# Altium footprint library 2021-04-29_10-36-20.PcbLib: 3 footprints
Each footprint in its own frame and in the unit in brackets; x right, y up, seen from the top. Pads: shape width x height; smd on the part's side, far side on the other; paste and mask are expansions set on the pad; w line width, h text height; cw(c..) or ccw(c..) is an arc to the next point about the centre after c.
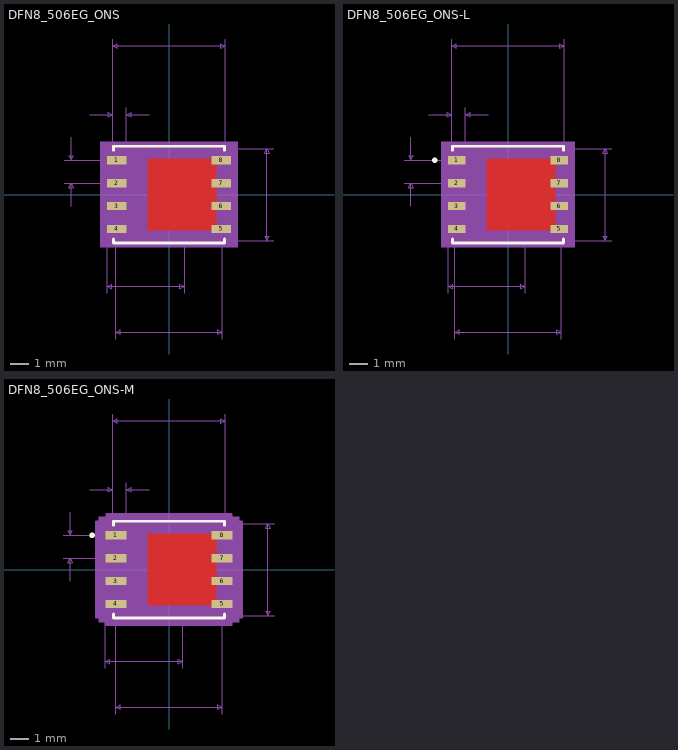
[diagram p0: the footprints below, top view; thin cyan lines are the x and y axes]

## DFN8_506EG_ONS [mil]
pads (8):
  rect 42x18 smd paste+0 mask+0: 1(-114,75) 2(-114,25) 3(-114,-25) 4(-114,-75) 5(114,-75) 6(114,-25) 7(114,25) 8(114,75)
Top Layer:
  region: 103,-78 103,78 -46,78 -46,-78
Top Overlay:
  lines w6: -121,-97.1 -121,-105.5 121,-105.5 121,-97.1 ; -121,97.1 -121,105.5 121,105.5 121,97.1
Top Paste:
  region: 103,-78 103,78 -46,78 -46,-78
Top Solder:
  region: 103,-78 103,78 -46,78 -46,-78
Mechanical 5:
  region: 150,-115.5 -150,-115.5 -150,115.5 150,115.5
Mechanical 7:
  lines w1: -229,25 -114,25 ; -229,75 -114,75 ; -214,-25 -214,25 ; -214,125 -214,75 ; -173,175 -123,175 ; -135,-215.5 -135,-78 ; -123,190 -123,75 -123,340 ; -116,-315.5 -116,-100.5 ; -93,75 -93,190 ; -43,175 -93,175 ; 34,-215.5 34,-78 ; 116,-315.5 116,-100.5 229,-100.5 ; 116,100.5 229,100.5 ; 123,75 123,340 ; -214,25 -209,15 -219,15 -214,25 ; -214,75 -209,85 -219,85 -214,75 ; -135,-200.5 -125,-205.5 -125,-195.5 -135,-200.5 ; -135,-200.5 34,-200.5 ; -123,175 -133,170 -133,180 -123,175 ; -123,325 -113,320 -113,330 -123,325 ; -123,325 123,325 ; -116,-300.5 -106,-305.5 -106,-295.5 -116,-300.5 ; -116,-300.5 116,-300.5 ; -93,175 -83,170 -83,180 -93,175 ; 34,-200.5 24,-205.5 24,-195.5 34,-200.5 ; 116,-300.5 106,-305.5 106,-295.5 116,-300.5 ; 123,325 113,320 113,330 123,325 ; 214,-100.5 219,-90.5 209,-90.5 214,-100.5 ; 214,-100.5 214,100.5 ; 214,100.5 219,90.5 209,90.5 214,100.5
  text "0.169in/4.293mm" at -144.25,-245.5 h25
  text "0.232in/5.893mm" at -93.75,-345.5 h25
  text "0.201in/5.105mm" at 234,-12.5 h25
  text "0.05in/1.27mm" at -396.5,37.5 h25
  text "0.03in/0.762mm" at -195.5,195 h25
  text "0.246in/6.248mm" at -93.75,345 h25
  text "Alt 2 Padstyle: OX90Y60D30P" at -337.5,-625.5 h50
  text "Alt 1 Padstyle: OX60Y90D30P" at -337.5,-550.5 h50
  text "Default Padstyle: RX42Y18D0T" at -350,-475.5 h50
Mechanical 13:
  lines w0: -12,100.5 ccw(c0,100.5) 12,100.5
  lines w1: -116,-100.5 -116,100.5 116,100.5 116,-100.5 -116,-100.5
Mechanical 15:
  region: -126,-102 -145,-102 -145,102 -126,102 -126,110.5 126,110.5 126,102 145,102 145,-102 126,-102 126,-110.5 -126,-110.5
  lines w6: -145,-102 -126,-102 -126,-110.5 126,-110.5 126,-102 145,-102 145,102 126,102 126,110.5 -126,110.5 -126,102 -145,102 -145,-102
3D body: height 10, standoff 0, extent 0,0 10,10

## DFN8_506EG_ONS-L [mil]
pads (8):
  rect 38x18 smd paste+0 mask+0: 1(-112,75) 2(-112,25) 3(-112,-25) 4(-112,-75) 5(112,-75) 6(112,-25) 7(112,25) 8(112,75)
Top Layer:
  region: 103,-78 103,78 -46,78 -46,-78
Top Overlay:
  circle w6: c-160,75 r3
  lines w6: -121,-97.1 -121,-105.5 121,-105.5 121,-97.1 ; -121,97.1 -121,105.5 121,105.5 121,97.1
Top Paste:
  region: 103,-78 103,78 -46,78 -46,-78
Top Solder:
  region: 103,-78 103,78 -46,78 -46,-78
Mechanical 5:
  region: 146,-115.5 -146,-115.5 -146,115.5 146,115.5
Mechanical 7:
  lines w1: -227,25 -112,25 ; -227,75 -112,75 ; -212,-25 -212,25 ; -212,125 -212,75 ; -173,175 -123,175 ; -131,-215.5 -131,-78 ; -123,190 -123,75 -123,340 ; -116,-315.5 -116,-100.5 ; -93,75 -93,190 ; -43,175 -93,175 ; 38,-215.5 38,-78 ; 116,-315.5 116,-100.5 227,-100.5 ; 116,100.5 227,100.5 ; 123,75 123,340 ; -212,25 -207,15 -217,15 -212,25 ; -212,75 -207,85 -217,85 -212,75 ; -131,-200.5 -121,-205.5 -121,-195.5 -131,-200.5 ; -131,-200.5 38,-200.5 ; -123,175 -133,170 -133,180 -123,175 ; -123,325 -113,320 -113,330 -123,325 ; -123,325 123,325 ; -116,-300.5 -106,-305.5 -106,-295.5 -116,-300.5 ; -116,-300.5 116,-300.5 ; -93,175 -83,170 -83,180 -93,175 ; 38,-200.5 28,-205.5 28,-195.5 38,-200.5 ; 116,-300.5 106,-305.5 106,-295.5 116,-300.5 ; 123,325 113,320 113,330 123,325 ; 212,-100.5 217,-90.5 207,-90.5 212,-100.5 ; 212,-100.5 212,100.5 ; 212,100.5 217,90.5 207,90.5 212,100.5
  text "0.169in/4.293mm" at -140.25,-245.5 h25
  text "0.232in/5.893mm" at -93.75,-345.5 h25
  text "0.201in/5.105mm" at 232,-12.5 h25
  text "0.05in/1.27mm" at -394.5,37.5 h25
  text "0.03in/0.762mm" at -195.5,195 h25
  text "0.246in/6.248mm" at -93.75,345 h25
  text "Alt 2 Padstyle: OX90Y60D30P" at -337.5,-625.5 h50
  text "Alt 1 Padstyle: OX60Y90D30P" at -337.5,-550.5 h50
  text "Default Padstyle: RX38Y18D0T" at -350,-475.5 h50
Mechanical 13:
  circle w0: c-93,75 r3
  lines w0: -12,100.5 ccw(c0,100.5) 12,100.5
  lines w1: -116,-100.5 -116,100.5 116,100.5 116,-100.5 -116,-100.5
Mechanical 15:
  region: -120,-100.8 -135,-100.8 -135,100.8 -120,100.8 -120,104.5 120,104.5 120,100.8 135,100.8 135,-100.8 120,-100.8 120,-104.5 -120,-104.5
  lines w6: -135,-100.8 -120,-100.8 -120,-104.5 120,-104.5 120,-100.8 135,-100.8 135,100.8 120,100.8 120,104.5 -120,104.5 -120,100.8 -135,100.8 -135,-100.8
3D body: height 10, standoff 0, extent 0,0 10,10

## DFN8_506EG_ONS-M [mil]
pads (8):
  rect 46x18 smd paste+0 mask+0: 1(-116,75) 2(-116,25) 3(-116,-25) 4(-116,-75) 5(116,-75) 6(116,-25) 7(116,25) 8(116,75)
Top Layer:
  region: 103,-78 103,78 -46,78 -46,-78
Top Overlay:
  circle w6: c-168,75 r3
  lines w6: -121,-97.1 -121,-105.5 121,-105.5 121,-97.1 ; -121,97.1 -121,105.5 121,105.5 121,97.1
Top Paste:
  region: 103,-78 103,78 -46,78 -46,-78
Top Solder:
  region: 103,-78 103,78 -46,78 -46,-78
Mechanical 5:
  region: 154,-115.5 -154,-115.5 -154,115.5 154,115.5
Mechanical 7:
  lines w1: -231,25 -116,25 ; -231,75 -116,75 ; -216,-25 -216,25 ; -216,125 -216,75 ; -173,175 -123,175 ; -139,-215.5 -139,-78 ; -123,190 -123,75 -123,340 ; -116,-315.5 -116,-100.5 ; -93,75 -93,190 ; -43,175 -93,175 ; 30,-215.5 30,-78 ; 116,-315.5 116,-100.5 231,-100.5 ; 116,100.5 231,100.5 ; 123,75 123,340 ; -216,25 -211,15 -221,15 -216,25 ; -216,75 -211,85 -221,85 -216,75 ; -139,-200.5 -129,-205.5 -129,-195.5 -139,-200.5 ; -139,-200.5 30,-200.5 ; -123,175 -133,170 -133,180 -123,175 ; -123,325 -113,320 -113,330 -123,325 ; -123,325 123,325 ; -116,-300.5 -106,-305.5 -106,-295.5 -116,-300.5 ; -116,-300.5 116,-300.5 ; -93,175 -83,170 -83,180 -93,175 ; 30,-200.5 20,-205.5 20,-195.5 30,-200.5 ; 116,-300.5 106,-305.5 106,-295.5 116,-300.5 ; 123,325 113,320 113,330 123,325 ; 216,-100.5 221,-90.5 211,-90.5 216,-100.5 ; 216,-100.5 216,100.5 ; 216,100.5 221,90.5 211,90.5 216,100.5
  text "0.169in/4.293mm" at -148.25,-245.5 h25
  text "0.232in/5.893mm" at -93.75,-345.5 h25
  text "0.201in/5.105mm" at 236,-12.5 h25
  text "0.05in/1.27mm" at -398.5,37.5 h25
  text "0.03in/0.762mm" at -195.5,195 h25
  text "0.246in/6.248mm" at -93.75,345 h25
  text "Alt 2 Padstyle: OX90Y60D30P" at -337.5,-625.5 h50
  text "Alt 1 Padstyle: OX60Y90D30P" at -337.5,-550.5 h50
  text "Default Padstyle: RX46Y18D0T" at -350,-475.5 h50
Mechanical 13:
  circle w0: c-93,75 r3
  lines w0: -12,100.5 ccw(c0,100.5) 12,100.5
  lines w1: -116,-100.5 -116,100.5 116,100.5 116,-100.5 -116,-100.5
Mechanical 15:
  region: -136,-104 -159,-104 -159,104 -136,104 -136,120.5 136,120.5 136,104 159,104 159,-104 136,-104 136,-120.5 -136,-120.5
  lines w6: -159,-104 -136,-104 -136,-120.5 136,-120.5 136,-104 159,-104 159,104 136,104 136,120.5 -136,120.5 -136,104 -159,104 -159,-104
3D body: height 10, standoff 0, extent 0,0 10,10